# EAGLE library part 172946001 (library Power modules)
LED STEP DOWN HIGH CURRENT MODUL Manufacturer's datasheet <https://katalog.we-online.de/pm/datasheet/172946001.pdf>
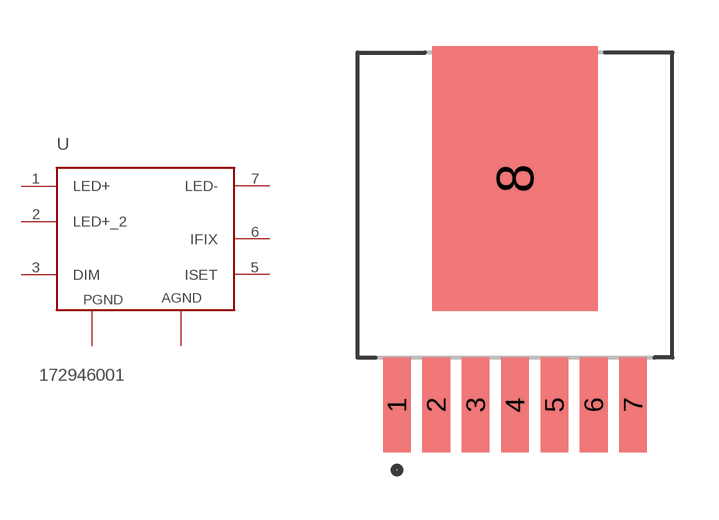
[diagram p1: symbol with the pads of 172946001; footprint 172946001]

Designator prefix U

## 172946001 (CREATED_BY: PCBLayout.com; DIGIKEY_PART_NUMBER: 732-6218-2-ND; MANUFACTURER: Wurth Electronics Inc.; MPN: 172946001; PACKAGE: 7-SMD Module)  [172946001]
1  LED+  pwr
2  LED+_2  pwr
3  DIM  in
4  AGND  pwr
5  ISET  in
6  IFIX  in
7  LED-  pwr
8  EP  pwr

## Footprint 172946001 (pad centres in mm)
smd 0.89 x 3.06: 1 -3.81,0; 2 -2.54,0; 3 -1.27,0; 4 0,0; 5 1.27,0; 6 2.54,0; 7 3.81,0
smd 5.35 x 8.54: 8 0,7.305